# Altium integrated library NSC Legacy.IntLib: 687 symbols (part 14 of 17)
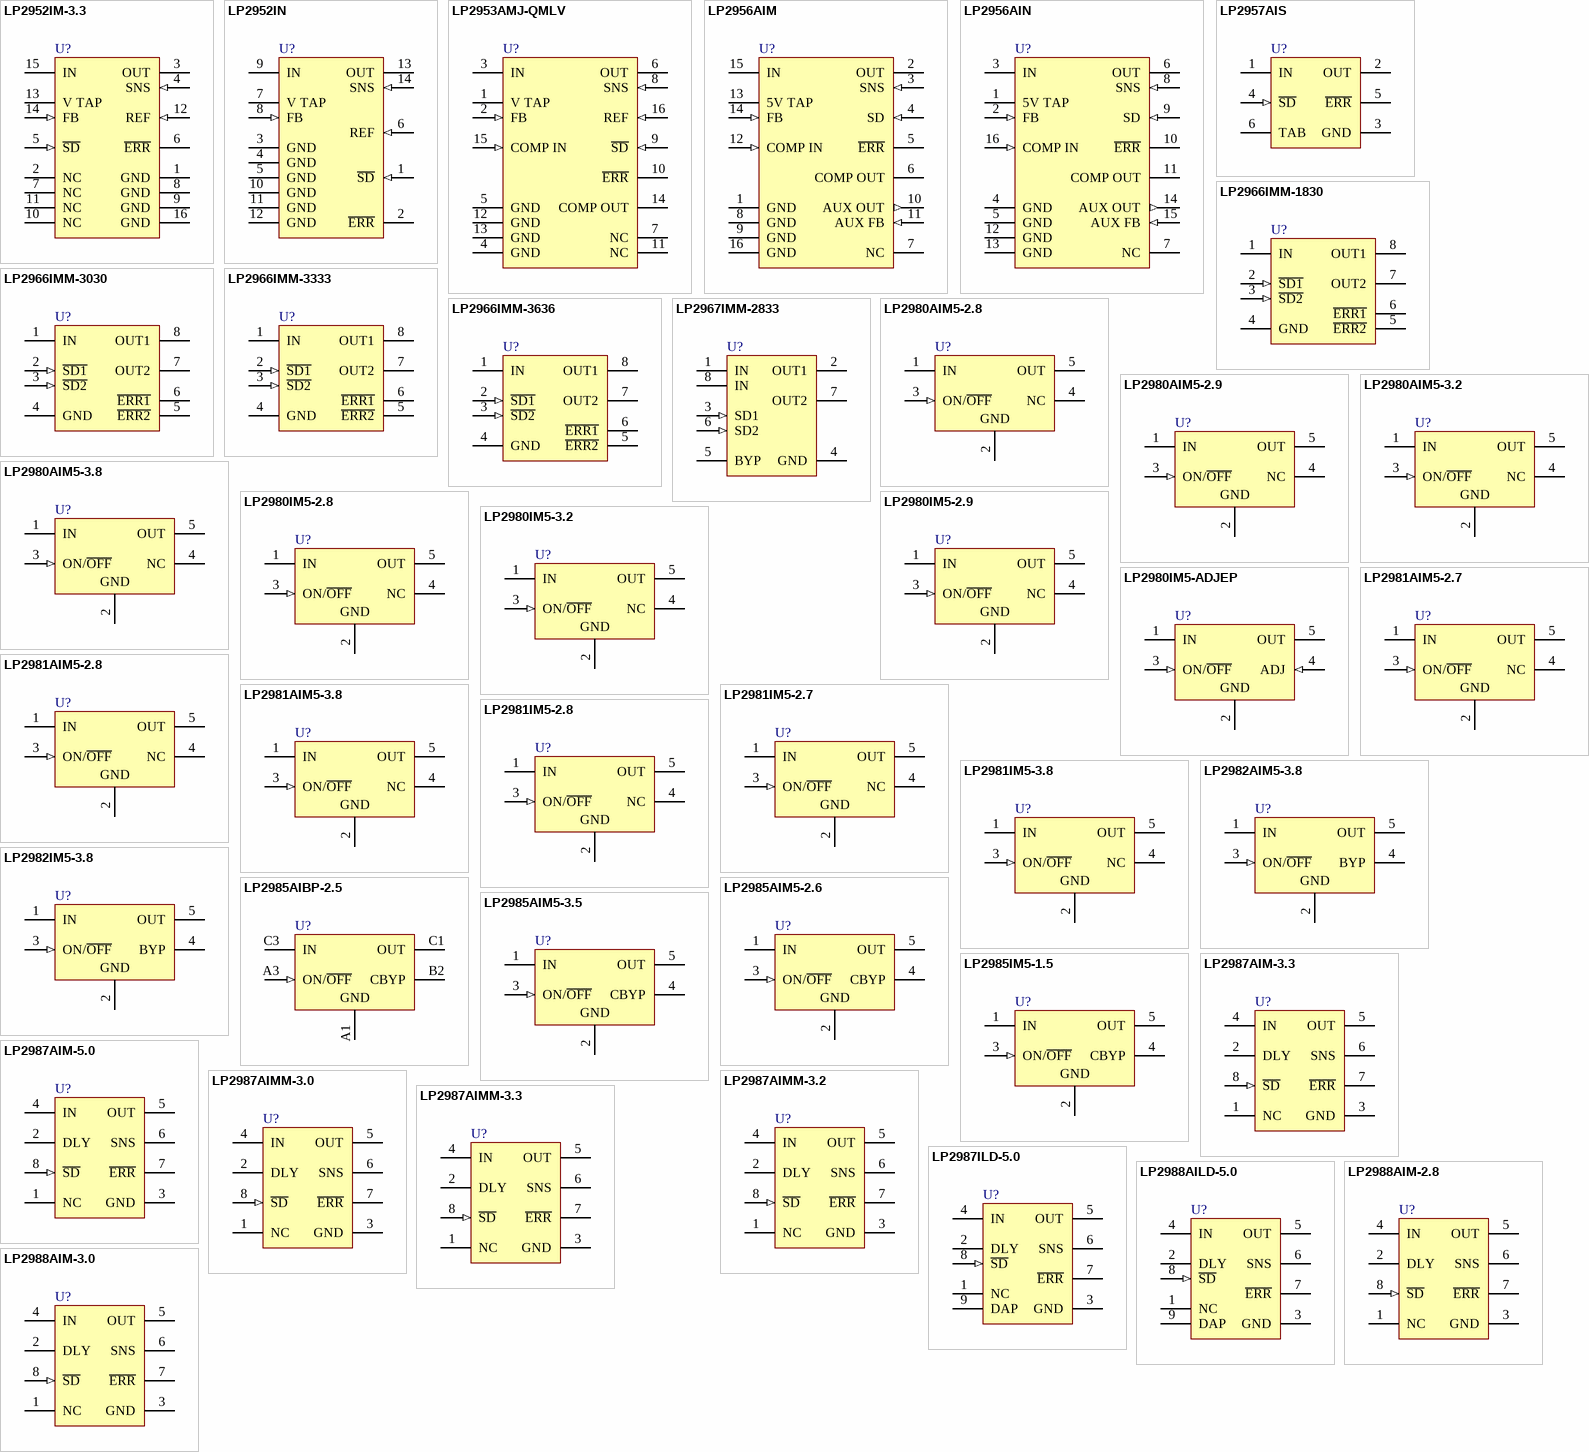
[diagram p37: symbols LP2952IM-3.3 to LP2988AIM-3.0]

## LP2980IM5-3.2
designator U?
Micropower 50 mA Ultra Low-Dropout Regulator, 5-pin SOT-23; PartNumber: LP2980IM5-3.2; Manufacturer: National Semiconductor; PackageTopMarking: L31B*XTT; CompType: LDO IC; Published: 4-Dec-2008; DatasheetVersion: Sep-2006; PackageVersion: revD, Aug-2008; PackageReference: MF05A; Publisher: Altium Limited; PackageDescription: Molded SOT-23, .115 x .063 x .040 in Body, 5 Lead, .0375 in Pitch; RoHS: Y; PinCount: 5; ComponentLink1Description: LP2980 Datasheet; ComponentLink1URL: http://www.national.com/ds/LP/LP2980.pdf; ComponentLink2Description: LP2980 Web Page; ComponentLink2URL: http://www.national.com/pf/LP/LP2980.html; ComponentLink3Description: MF05A Package Page; ComponentLink3URL: http://www.national.com/packaging/folders/mf05a.html
footprint MF05A_N (SOT23, 5-Leads, Body 2.9x1.6mm, Pitch 0.95mm, Lead Span 2.8mm, IPC Medium Density)
footprint MF05A_L (SOT23, 5-Leads, Body 2.9x1.6mm, Pitch 0.95mm, Lead Span 2.8mm, IPC High Density)
footprint MF05A_M (SOT23, 5-Leads, Body 2.9x1.6mm, Pitch 0.95mm, Lead Span 2.8mm, IPC Low Density)
pins: 1 IN (power), 2 GND (power), 3 ON/~{OFF} (in), 4 NC, 5 OUT (power)

## LP2980IM5-ADJEP
designator U?
Micropower 50 mA Ultra Low-Dropout Regulator, 5-pin SOT-23; PartNumber: LP2980IM5-ADJEP; Manufacturer: National Semiconductor; PackageTopMarking: L06J*XTT; PowerWise: N; CompType: LDO IC; Published: 4-Dec-2008; DatasheetVersion: Dec-2006; PackageVersion: revD, Aug-2008; PackageReference: MF05A; Publisher: Altium Limited; PackageDescription: Molded SOT-23, .115 x .063 x .040 in Body, 5 Lead, .0375 in Pitch; RoHS: N; PinCount: 5; ComponentLink1Description: LP2980-ADJEP Datasheet; ComponentLink1URL: http://www.national.com/ds/LP/LP2980-ADJEP.pdf; ComponentLink2Description: LP2980-ADJEP Web Page; ComponentLink2URL: http://www.national.com/pf/LP/LP2980-ADJEP.html; ComponentLink3Description: MF05A Package Page; ComponentLink3URL: http://www.national.com/packaging/folders/mf05a.html
footprint MF05A_N (SOT23, 5-Leads, Body 2.9x1.6mm, Pitch 0.95mm, Lead Span 2.8mm, IPC Medium Density)
footprint MF05A_L (SOT23, 5-Leads, Body 2.9x1.6mm, Pitch 0.95mm, Lead Span 2.8mm, IPC High Density)
footprint MF05A_M (SOT23, 5-Leads, Body 2.9x1.6mm, Pitch 0.95mm, Lead Span 2.8mm, IPC Low Density)
pins: 1 IN (power), 2 GND (power), 3 ON/~{OFF} (in), 4 ADJ (in), 5 OUT (power)

## LP2981AIM5-2.7
designator U?
Micropower 100 mA Ultra Low-Dropout Regulator, 5-pin SOT-23; PartNumber: LP2981AIM5-2.7; Manufacturer: National Semiconductor; PackageTopMarking: L0DA*XTT; CompType: LDO IC; Published: 4-Dec-2008; DatasheetVersion: Feb-2006; PackageVersion: revD, Aug-2008; PackageReference: MF05A; Publisher: Altium Limited; PackageDescription: Molded SOT-23, .115 x .063 x .040 in Body, 5 Lead, .0375 in Pitch; RoHS: Y; PinCount: 5; ComponentLink1Description: LP2981 Datasheet; ComponentLink1URL: http://www.national.com/ds/LP/LP2981.pdf; ComponentLink2Description: LP2981 Web Page; ComponentLink2URL: http://www.national.com/pf/LP/LP2981.html; ComponentLink3Description: MF05A Package Page; ComponentLink3URL: http://www.national.com/packaging/folders/mf05a.html
footprint MF05A_N (SOT23, 5-Leads, Body 2.9x1.6mm, Pitch 0.95mm, Lead Span 2.8mm, IPC Medium Density)
footprint MF05A_L (SOT23, 5-Leads, Body 2.9x1.6mm, Pitch 0.95mm, Lead Span 2.8mm, IPC High Density)
footprint MF05A_M (SOT23, 5-Leads, Body 2.9x1.6mm, Pitch 0.95mm, Lead Span 2.8mm, IPC Low Density)
pins: 1 IN (power), 2 GND (power), 3 ON/~{OFF} (in), 4 NC, 5 OUT (power)

## LP2981AIM5-2.8
designator U?
Micropower 100 mA Ultra Low-Dropout Regulator, 5-pin SOT-23; PartNumber: LP2981AIM5-2.8; Manufacturer: National Semiconductor; PackageTopMarking: L77A*XTT; CompType: LDO IC; Published: 4-Dec-2008; DatasheetVersion: Feb-2006; PackageVersion: revD, Aug-2008; PackageReference: MF05A; Publisher: Altium Limited; PackageDescription: Molded SOT-23, .115 x .063 x .040 in Body, 5 Lead, .0375 in Pitch; RoHS: Y; PinCount: 5; ComponentLink1Description: LP2981 Datasheet; ComponentLink1URL: http://www.national.com/ds/LP/LP2981.pdf; ComponentLink2Description: LP2981 Web Page; ComponentLink2URL: http://www.national.com/pf/LP/LP2981.html; ComponentLink3Description: MF05A Package Page; ComponentLink3URL: http://www.national.com/packaging/folders/mf05a.html
footprint MF05A_N (SOT23, 5-Leads, Body 2.9x1.6mm, Pitch 0.95mm, Lead Span 2.8mm, IPC Medium Density)
footprint MF05A_L (SOT23, 5-Leads, Body 2.9x1.6mm, Pitch 0.95mm, Lead Span 2.8mm, IPC High Density)
footprint MF05A_M (SOT23, 5-Leads, Body 2.9x1.6mm, Pitch 0.95mm, Lead Span 2.8mm, IPC Low Density)
pins: 1 IN (power), 2 GND (power), 3 ON/~{OFF} (in), 4 NC, 5 OUT (power)

## LP2981AIM5-3.8
designator U?
Micropower 100 mA Ultra Low-Dropout Regulator, 5-pin SOT-23; PartNumber: LP2981AIM5-3.8; Manufacturer: National Semiconductor; PackageTopMarking: L36A*XTT; CompType: LDO IC; Published: 4-Dec-2008; DatasheetVersion: Feb-2006; PackageVersion: revD, Aug-2008; PackageReference: MF05A; Publisher: Altium Limited; PackageDescription: Molded SOT-23, .115 x .063 x .040 in Body, 5 Lead, .0375 in Pitch; RoHS: Y; PinCount: 5; ComponentLink1Description: LP2981 Datasheet; ComponentLink1URL: http://www.national.com/ds/LP/LP2981.pdf; ComponentLink2Description: LP2981 Web Page; ComponentLink2URL: http://www.national.com/pf/LP/LP2981.html; ComponentLink3Description: MF05A Package Page; ComponentLink3URL: http://www.national.com/packaging/folders/mf05a.html
footprint MF05A_N (SOT23, 5-Leads, Body 2.9x1.6mm, Pitch 0.95mm, Lead Span 2.8mm, IPC Medium Density)
footprint MF05A_L (SOT23, 5-Leads, Body 2.9x1.6mm, Pitch 0.95mm, Lead Span 2.8mm, IPC High Density)
footprint MF05A_M (SOT23, 5-Leads, Body 2.9x1.6mm, Pitch 0.95mm, Lead Span 2.8mm, IPC Low Density)
pins: 1 IN (power), 2 GND (power), 3 ON/~{OFF} (in), 4 NC, 5 OUT (power)

## LP2981IM5-2.7
designator U?
Micropower 100 mA Ultra Low-Dropout Regulator, 5-pin SOT-23; PartNumber: LP2981IM5-2.7; Manufacturer: National Semiconductor; PackageTopMarking: L0DB*XTT; CompType: LDO IC; Published: 4-Dec-2008; DatasheetVersion: Feb-2006; PackageVersion: revD, Aug-2008; PackageReference: MF05A; Publisher: Altium Limited; PackageDescription: Molded SOT-23, .115 x .063 x .040 in Body, 5 Lead, .0375 in Pitch; RoHS: Y; PinCount: 5; ComponentLink1Description: LP2981 Datasheet; ComponentLink1URL: http://www.national.com/ds/LP/LP2981.pdf; ComponentLink2Description: LP2981 Web Page; ComponentLink2URL: http://www.national.com/pf/LP/LP2981.html; ComponentLink3Description: MF05A Package Page; ComponentLink3URL: http://www.national.com/packaging/folders/mf05a.html
footprint MF05A_N (SOT23, 5-Leads, Body 2.9x1.6mm, Pitch 0.95mm, Lead Span 2.8mm, IPC Medium Density)
footprint MF05A_L (SOT23, 5-Leads, Body 2.9x1.6mm, Pitch 0.95mm, Lead Span 2.8mm, IPC High Density)
footprint MF05A_M (SOT23, 5-Leads, Body 2.9x1.6mm, Pitch 0.95mm, Lead Span 2.8mm, IPC Low Density)
pins: 1 IN (power), 2 GND (power), 3 ON/~{OFF} (in), 4 NC, 5 OUT (power)

## LP2981IM5-2.8
designator U?
Micropower 100 mA Ultra Low-Dropout Regulator, 5-pin SOT-23; PartNumber: LP2981IM5-2.8; Manufacturer: National Semiconductor; PackageTopMarking: L77B*XTT; CompType: LDO IC; Published: 4-Dec-2008; DatasheetVersion: Feb-2006; PackageVersion: revD, Aug-2008; PackageReference: MF05A; Publisher: Altium Limited; PackageDescription: Molded SOT-23, .115 x .063 x .040 in Body, 5 Lead, .0375 in Pitch; RoHS: Y; PinCount: 5; ComponentLink1Description: LP2981 Datasheet; ComponentLink1URL: http://www.national.com/ds/LP/LP2981.pdf; ComponentLink2Description: LP2981 Web Page; ComponentLink2URL: http://www.national.com/pf/LP/LP2981.html; ComponentLink3Description: MF05A Package Page; ComponentLink3URL: http://www.national.com/packaging/folders/mf05a.html
footprint MF05A_N (SOT23, 5-Leads, Body 2.9x1.6mm, Pitch 0.95mm, Lead Span 2.8mm, IPC Medium Density)
footprint MF05A_L (SOT23, 5-Leads, Body 2.9x1.6mm, Pitch 0.95mm, Lead Span 2.8mm, IPC High Density)
footprint MF05A_M (SOT23, 5-Leads, Body 2.9x1.6mm, Pitch 0.95mm, Lead Span 2.8mm, IPC Low Density)
pins: 1 IN (power), 2 GND (power), 3 ON/~{OFF} (in), 4 NC, 5 OUT (power)

## LP2981IM5-3.8
designator U?
Micropower 100 mA Ultra Low-Dropout Regulator, 5-pin SOT-23; PartNumber: LP2981IM5-3.8; Manufacturer: National Semiconductor; PackageTopMarking: L36B*XTT; CompType: LDO IC; Published: 4-Dec-2008; DatasheetVersion: Feb-2006; PackageVersion: revD, Aug-2008; PackageReference: MF05A; Publisher: Altium Limited; PackageDescription: Molded SOT-23, .115 x .063 x .040 in Body, 5 Lead, .0375 in Pitch; RoHS: Y; PinCount: 5; ComponentLink1Description: LP2981 Datasheet; ComponentLink1URL: http://www.national.com/ds/LP/LP2981.pdf; ComponentLink2Description: LP2981 Web Page; ComponentLink2URL: http://www.national.com/pf/LP/LP2981.html; ComponentLink3Description: MF05A Package Page; ComponentLink3URL: http://www.national.com/packaging/folders/mf05a.html
footprint MF05A_N (SOT23, 5-Leads, Body 2.9x1.6mm, Pitch 0.95mm, Lead Span 2.8mm, IPC Medium Density)
footprint MF05A_L (SOT23, 5-Leads, Body 2.9x1.6mm, Pitch 0.95mm, Lead Span 2.8mm, IPC High Density)
footprint MF05A_M (SOT23, 5-Leads, Body 2.9x1.6mm, Pitch 0.95mm, Lead Span 2.8mm, IPC Low Density)
pins: 1 IN (power), 2 GND (power), 3 ON/~{OFF} (in), 4 NC, 5 OUT (power)

## LP2982AIM5-3.8
designator U?
Micropower 50 mA Ultra Low-Dropout Regulator, 5-pin SOT-23; PartNumber: LP2982AIM5-3.8; Manufacturer: National Semiconductor; PackageTopMarking: L76A*XTT; CompType: LDO IC; Published: 4-Dec-2008; DatasheetVersion: Feb-2006; PackageVersion: revD, Aug-2008; PackageReference: MF05A; Publisher: Altium Limited; PackageDescription: Molded SOT-23, .115 x .063 x .040 in Body, 5 Lead, .0375 in Pitch; RoHS: Y; PinCount: 5; ComponentLink1Description: LP2982 Datasheet; ComponentLink1URL: http://www.national.com/ds/LP/LP2982.pdf; ComponentLink2Description: LP2982 Web Page; ComponentLink2URL: http://www.national.com/pf/LP/LP2982.html; ComponentLink3Description: MF05A Package Page; ComponentLink3URL: http://www.national.com/packaging/folders/mf05a.html
footprint MF05A_N (SOT23, 5-Leads, Body 2.9x1.6mm, Pitch 0.95mm, Lead Span 2.8mm, IPC Medium Density)
footprint MF05A_L (SOT23, 5-Leads, Body 2.9x1.6mm, Pitch 0.95mm, Lead Span 2.8mm, IPC High Density)
footprint MF05A_M (SOT23, 5-Leads, Body 2.9x1.6mm, Pitch 0.95mm, Lead Span 2.8mm, IPC Low Density)
pins: 1 IN (power), 2 GND (power), 3 ON/~{OFF} (in), 4 BYP, 5 OUT (power)

## LP2982IM5-3.8
designator U?
Micropower 50 mA Ultra Low-Dropout Regulator, 5-pin SOT-23; PartNumber: LP2982IM5-3.8; Manufacturer: National Semiconductor; PackageTopMarking: L76B*XTT; CompType: LDO IC; Published: 4-Dec-2008; DatasheetVersion: Feb-2006; PackageVersion: revD, Aug-2008; PackageReference: MF05A; Publisher: Altium Limited; PackageDescription: Molded SOT-23, .115 x .063 x .040 in Body, 5 Lead, .0375 in Pitch; RoHS: Y; PinCount: 5; ComponentLink1Description: LP2982 Datasheet; ComponentLink1URL: http://www.national.com/ds/LP/LP2982.pdf; ComponentLink2Description: LP2982 Web Page; ComponentLink2URL: http://www.national.com/pf/LP/LP2982.html; ComponentLink3Description: MF05A Package Page; ComponentLink3URL: http://www.national.com/packaging/folders/mf05a.html
footprint MF05A_N (SOT23, 5-Leads, Body 2.9x1.6mm, Pitch 0.95mm, Lead Span 2.8mm, IPC Medium Density)
footprint MF05A_L (SOT23, 5-Leads, Body 2.9x1.6mm, Pitch 0.95mm, Lead Span 2.8mm, IPC High Density)
footprint MF05A_M (SOT23, 5-Leads, Body 2.9x1.6mm, Pitch 0.95mm, Lead Span 2.8mm, IPC Low Density)
pins: 1 IN (power), 2 GND (power), 3 ON/~{OFF} (in), 4 BYP, 5 OUT (power)

## LP2985AIBP-2.5
designator U?
Micropower 150 mA Low-Noise Ultra Low-Dropout Regulator, 5-pin Micro SMD; PartNumber: LP2985AIBP-2.5; Manufacturer: National Semiconductor; PackageTopMarking: XV*I C; CompType: LDO IC; Published: 4-Dec-2008; DatasheetVersion: Jul-2007; PackageVersion: revC, Feb-2002; PackageReference: BPA05GAB; Publisher: Altium Limited; PackageDescription: Micro SMD, 5 Bump, 0.5mm Pitch; Supplier 1: Digi-Key; Supplier Part Number 1: LP2985AIBP-2.5TR-ND; Supplier 2: Digi-Key; Supplier Part Number 2: LP2985AIBP-2.5CT-ND; RoHS: N; PinCount: 5; ComponentLink1Description: LP2985 Datasheet; ComponentLink1URL: http://www.national.com/ds/LP/LP2985.pdf; ComponentLink2Description: LP2985 Web Page; ComponentLink2URL: http://www.national.com/pf/LP/LP2985.html; ComponentLink3Description: BPA05GAB Package Page; ComponentLink3URL: http://www.national.com/packaging/folders/bpa05gab.html
footprint BPA05GAB (Micro SMD, 5-Leads, Body 1.11x0.93mm, Pitch 0.5mm, NSC Recommended)
pins: A1 GND (power), A3 ON/~{OFF} (in), B2 CBYP, C1 OUT (power), C3 IN (power)

## LP2985AIM5-2.6
designator U?
Micropower 150 mA Low-Noise Ultra Low-Dropout Regulator, 5-pin SOT-23; PartNumber: LP2985AIM5-2.6; Manufacturer: National Semiconductor; PackageTopMarking: LCEA*XTT; CompType: LDO IC; Published: 4-Dec-2008; DatasheetVersion: Jul-2007; PackageVersion: revD, Aug-2008; PackageReference: MF05A; Publisher: Altium Limited; PackageDescription: Molded SOT-23, .115 x .063 x .040 in Body, 5 Lead, .0375 in Pitch; RoHS: Y; PinCount: 5; ComponentLink1Description: LP2985 Datasheet; ComponentLink1URL: http://www.national.com/ds/LP/LP2985.pdf; ComponentLink2Description: LP2985 Web Page; ComponentLink2URL: http://www.national.com/pf/LP/LP2985.html; ComponentLink3Description: MF05A Package Page; ComponentLink3URL: http://www.national.com/packaging/folders/mf05a.html
footprint MF05A_N (SOT23, 5-Leads, Body 2.9x1.6mm, Pitch 0.95mm, Lead Span 2.8mm, IPC Medium Density)
footprint MF05A_L (SOT23, 5-Leads, Body 2.9x1.6mm, Pitch 0.95mm, Lead Span 2.8mm, IPC High Density)
footprint MF05A_M (SOT23, 5-Leads, Body 2.9x1.6mm, Pitch 0.95mm, Lead Span 2.8mm, IPC Low Density)
pins: 1 IN (power), 2 GND (power), 3 ON/~{OFF} (in), 4 CBYP, 5 OUT (power)

## LP2985AIM5-3.5
designator U?
Micropower 150 mA Low-Noise Ultra Low-Dropout Regulator, 5-pin SOT-23; PartNumber: LP2985AIM5-3.5; Manufacturer: National Semiconductor; PackageTopMarking: LAIA*XTT; CompType: LDO IC; Published: 4-Dec-2008; DatasheetVersion: Jul-2007; PackageVersion: revD, Aug-2008; PackageReference: MF05A; Publisher: Altium Limited; PackageDescription: Molded SOT-23, .115 x .063 x .040 in Body, 5 Lead, .0375 in Pitch; RoHS: Y; PinCount: 5; ComponentLink1Description: LP2985 Datasheet; ComponentLink1URL: http://www.national.com/ds/LP/LP2985.pdf; ComponentLink2Description: LP2985 Web Page; ComponentLink2URL: http://www.national.com/pf/LP/LP2985.html; ComponentLink3Description: MF05A Package Page; ComponentLink3URL: http://www.national.com/packaging/folders/mf05a.html
footprint MF05A_N (SOT23, 5-Leads, Body 2.9x1.6mm, Pitch 0.95mm, Lead Span 2.8mm, IPC Medium Density)
footprint MF05A_L (SOT23, 5-Leads, Body 2.9x1.6mm, Pitch 0.95mm, Lead Span 2.8mm, IPC High Density)
footprint MF05A_M (SOT23, 5-Leads, Body 2.9x1.6mm, Pitch 0.95mm, Lead Span 2.8mm, IPC Low Density)
pins: 1 IN (power), 2 GND (power), 3 ON/~{OFF} (in), 4 CBYP, 5 OUT (power)

## LP2985IM5-1.5
designator U?
Micropower 150 mA Low-Noise Ultra Low-Dropout Regulator, 5-pin SOT-23; PartNumber: LP2985IM5-1.5; Manufacturer: National Semiconductor; PackageTopMarking: LCHB*XTT; CompType: LDO IC; Published: 4-Dec-2008; DatasheetVersion: Jun-2004; PackageVersion: revD, Aug-2008; PackageReference: MF05A; Publisher: Altium Limited; PackageDescription: Molded SOT-23, .115 x .063 x .040 in Body, 5 Lead, .0375 in Pitch; Supplier 1: Digi-Key; Supplier Part Number 1: LP2985IM5-1.5CT-ND; Supplier 2: Digi-Key; Supplier Part Number 2: LP2985IM5-1.5DKR-ND; RoHS: Y; PinCount: 5; ComponentLink1Description: LP2985LV Datasheet; ComponentLink1URL: http://www.national.com/ds/LP/LP2985LV.pdf; ComponentLink2Description: LP2985LV Web Page; ComponentLink2URL: http://www.national.com/pf/LP/LP2985LV.html; ComponentLink3Description: MF05A Package Page; ComponentLink3URL: http://www.national.com/packaging/folders/mf05a.html
footprint MF05A_N (SOT23, 5-Leads, Body 2.9x1.6mm, Pitch 0.95mm, Lead Span 2.8mm, IPC Medium Density)
footprint MF05A_L (SOT23, 5-Leads, Body 2.9x1.6mm, Pitch 0.95mm, Lead Span 2.8mm, IPC High Density)
footprint MF05A_M (SOT23, 5-Leads, Body 2.9x1.6mm, Pitch 0.95mm, Lead Span 2.8mm, IPC Low Density)
pins: 1 IN (power), 2 GND (power), 3 ON/~{OFF} (in), 4 CBYP, 5 OUT (power)

## LP2987AIM-3.3
designator U?
Micropower, 200 mA Ultra Low-Dropout Voltage Regulator with Programmable Power-On Reset Delay, 8-pin Narrow SOIC; PartNumber: LP2987AIM-3.3; Manufacturer: National Semiconductor; PackageTopMarking: NSZXTT*2987A*IM3.3; CompType: LDO IC; Published: 4-Dec-2008; DatasheetVersion: Mar-2005; PackageVersion: revM, May-2009; PackageReference: M08A; Publisher: Altium Limited; PackageDescription: SOIC Narrow, 4.9 x 3.9 x 1.45mm, 8 Lead, 1.27mm Pitch; RoHS: O; PinCount: 8; Code_JEDEC: MS-012-AA; Code_IPC: SOIC127P600-8; ComponentLink1Description: LP2987 Datasheet; ComponentLink1URL: http://www.national.com/ds/LP/LP2987.pdf; ComponentLink2Description: LP2987 Web Page; ComponentLink2URL: http://www.national.com/pf/LP/LP2987.html; ComponentLink3Description: M08A Package Page; ComponentLink3URL: http://www.national.com/packaging/folders/m08a.html
footprint M08A_N (SOIC, 8-Leads, Body 4.9x3.9mm, Pitch 1.27mm, IPC Medium Density)
footprint M08A_L (SOIC, 8-Leads, Body 4.9x3.9mm, Pitch 1.27mm, IPC High Density)
footprint M08A_M (SOIC, 8-Leads, Body 4.9x3.9mm, Pitch 1.27mm, IPC Low Density)
pins: 1 NC, 2 DLY, 3 GND (power), 4 IN (power), 5 OUT (power), 6 SNS, 7 ~{ERR} (oc), 8 ~{SD} (in)

## LP2987AIM-5.0
designator U?
Micropower, 200 mA Ultra Low-Dropout Voltage Regulator with Programmable Power-On Reset Delay, 8-pin Narrow SOIC; PartNumber: LP2987AIM-5.0; Manufacturer: National Semiconductor; PackageTopMarking: NSZXTT*2987A*IM5.0; CompType: LDO IC; Published: 4-Dec-2008; DatasheetVersion: Mar-2005; PackageVersion: revM, May-2009; PackageReference: M08A; Publisher: Altium Limited; PackageDescription: SOIC Narrow, 4.9 x 3.9 x 1.45mm, 8 Lead, 1.27mm Pitch; RoHS: Y; PinCount: 8; Code_JEDEC: MS-012-AA; Code_IPC: SOIC127P600-8; ComponentLink1Description: LP2987 Datasheet; ComponentLink1URL: http://www.national.com/ds/LP/LP2987.pdf; ComponentLink2Description: LP2987 Web Page; ComponentLink2URL: http://www.national.com/pf/LP/LP2987.html; ComponentLink3Description: M08A Package Page; ComponentLink3URL: http://www.national.com/packaging/folders/m08a.html
footprint M08A_N (SOIC, 8-Leads, Body 4.9x3.9mm, Pitch 1.27mm, IPC Medium Density)
footprint M08A_L (SOIC, 8-Leads, Body 4.9x3.9mm, Pitch 1.27mm, IPC High Density)
footprint M08A_M (SOIC, 8-Leads, Body 4.9x3.9mm, Pitch 1.27mm, IPC Low Density)
pins: 1 NC, 2 DLY, 3 GND (power), 4 IN (power), 5 OUT (power), 6 SNS, 7 ~{ERR} (oc), 8 ~{SD} (in)

## LP2987AIMM-3.0
designator U?
Micropower, 200 mA Ultra Low-Dropout Voltage Regulator with Programmable Power-On Reset Delay, 8-pin Mini SOIC; PartNumber: LP2987AIMM-3.0; Manufacturer: National Semiconductor; PackageTopMarking: ZXTT*L42A; CompType: LDO IC; Published: 4-Dec-2008; DatasheetVersion: Mar-2005; PackageVersion: revF, Apr-2008; PackageReference: MUA08A; Publisher: Altium Limited; PackageDescription: MINI SOIC, .118 x .118 x .034in, 8 Lead, .0256in Pitch; Supplier 1: Digi-Key; Supplier Part Number 1: LP2987AIMM-3.0TR-ND; Supplier 2: Digi-Key; Supplier Part Number 2: LP2987AIMM-3.0CT-ND; RoHS: Y; PinCount: 8; Code_JEDEC: MO-187-AA; ComponentLink1Description: LP2987 Datasheet; ComponentLink1URL: http://www.national.com/ds/LP/LP2987.pdf; ComponentLink2Description: LP2987 Web Page; ComponentLink2URL: http://www.national.com/pf/LP/LP2987.html; ComponentLink3Description: MUA08A Package Page; ComponentLink3URL: http://www.national.com/packaging/folders/mua08a.html
footprint MUA08A_N (TSOP, 8-Leads, Body 3x3mm, Pitch 0.65mm, IPC Medium Density)
footprint MUA08A_L (TSOP, 8-Leads, Body 3x3mm, Pitch 0.65mm, IPC High Density)
footprint MUA08A_M (TSOP, 8-Leads, Body 3x3mm, Pitch 0.65mm, IPC Low Density)
pins: 1 NC, 2 DLY, 3 GND (power), 4 IN (power), 5 OUT (power), 6 SNS, 7 ~{ERR} (oc), 8 ~{SD} (in)

## LP2987AIMM-3.2
designator U?
Micropower, 200 mA Ultra Low-Dropout Voltage Regulator with Programmable Power-On Reset Delay, 8-pin Mini SOIC; PartNumber: LP2987AIMM-3.2; Manufacturer: National Semiconductor; PackageTopMarking: ZXTT*L66A; CompType: LDO IC; Published: 4-Dec-2008; DatasheetVersion: Mar-2005; PackageVersion: revF, Apr-2008; PackageReference: MUA08A; Publisher: Altium Limited; PackageDescription: MINI SOIC, .118 x .118 x .034in, 8 Lead, .0256in Pitch; Supplier 1: Digi-Key; Supplier Part Number 1: LP2987AIMM-3.2TR-ND; Supplier 2: Digi-Key; Supplier Part Number 2: LP2987AIMM-3.2CT-ND; RoHS: Y; PinCount: 8; Code_JEDEC: MO-187-AA; ComponentLink1Description: LP2987 Datasheet; ComponentLink1URL: http://www.national.com/ds/LP/LP2987.pdf; ComponentLink2Description: LP2987 Web Page; ComponentLink2URL: http://www.national.com/pf/LP/LP2987.html; ComponentLink3Description: MUA08A Package Page; ComponentLink3URL: http://www.national.com/packaging/folders/mua08a.html
footprint MUA08A_N (TSOP, 8-Leads, Body 3x3mm, Pitch 0.65mm, IPC Medium Density)
footprint MUA08A_L (TSOP, 8-Leads, Body 3x3mm, Pitch 0.65mm, IPC High Density)
footprint MUA08A_M (TSOP, 8-Leads, Body 3x3mm, Pitch 0.65mm, IPC Low Density)
pins: 1 NC, 2 DLY, 3 GND (power), 4 IN (power), 5 OUT (power), 6 SNS, 7 ~{ERR} (oc), 8 ~{SD} (in)

## LP2987AIMM-3.3
designator U?
Micropower, 200 mA Ultra Low-Dropout Voltage Regulator with Programmable Power-On Reset Delay, 8-pin Mini SOIC; PartNumber: LP2987AIMM-3.3; Manufacturer: National Semiconductor; PackageTopMarking: ZXTT*L43A; CompType: LDO IC; Published: 4-Dec-2008; DatasheetVersion: Mar-2005; PackageVersion: revF, Apr-2008; PackageReference: MUA08A; Publisher: Altium Limited; PackageDescription: MINI SOIC, .118 x .118 x .034in, 8 Lead, .0256in Pitch; Supplier 1: Digi-Key; Supplier Part Number 1: LP2987AIMM-3.3TR-ND; Supplier 2: Digi-Key; Supplier Part Number 2: LP2987AIMM-3.3CT-ND; RoHS: Y; PinCount: 8; Code_JEDEC: MO-187-AA; ComponentLink1Description: LP2987 Datasheet; ComponentLink1URL: http://www.national.com/ds/LP/LP2987.pdf; ComponentLink2Description: LP2987 Web Page; ComponentLink2URL: http://www.national.com/pf/LP/LP2987.html; ComponentLink3Description: MUA08A Package Page; ComponentLink3URL: http://www.national.com/packaging/folders/mua08a.html
footprint MUA08A_N (TSOP, 8-Leads, Body 3x3mm, Pitch 0.65mm, IPC Medium Density)
footprint MUA08A_L (TSOP, 8-Leads, Body 3x3mm, Pitch 0.65mm, IPC High Density)
footprint MUA08A_M (TSOP, 8-Leads, Body 3x3mm, Pitch 0.65mm, IPC Low Density)
pins: 1 NC, 2 DLY, 3 GND (power), 4 IN (power), 5 OUT (power), 6 SNS, 7 ~{ERR} (oc), 8 ~{SD} (in)

## LP2987ILD-5.0
designator U?
Micropower, 200 mA Ultra Low-Dropout Voltage Regulator with Programmable Power-On Reset Delay, 8-pin LLP; PartNumber: LP2987ILD-5.0; Manufacturer: National Semiconductor; PackageTopMarking: NS*UZXYTT*L009A*B; CompType: LDO IC; Published: 4-Dec-2008; DatasheetVersion: Mar-2005; PackageVersion: revB, Jun-2003; PackageReference: LDC08A; Publisher: Altium Limited; PackageDescription: LLP, Plastic, Dual, 4 x 4 x 0.75mm Body, 8 Lead, 0.8mm Pitch; Supplier 1: Farnell; Supplier Part Number 1: 4801283; RoHS: Y; PinCount: 8; ComponentLink1Description: LP2987 Datasheet; ComponentLink1URL: http://www.national.com/ds/LP/LP2987.pdf; ComponentLink2Description: LP2987 Web Page; ComponentLink2URL: http://www.national.com/pf/LP/LP2987.html; ComponentLink3Description: LDC08A Package Page; ComponentLink3URL: http://www.national.com/packaging/folders/ldc08a.html
footprint LDC08A (PSON, 8-Leads, Body 4x4mm, Pitch 0.8mm, NSC Recommended)
pins: 1 NC, 2 DLY, 3 GND (power), 4 IN (power), 5 OUT (power), 6 SNS, 7 ~{ERR} (oc), 8 ~{SD} (in), 9 DAP (power)

## LP2988AILD-5.0
designator U?
Micropower, 200 mA Ultra Low-Dropout Low Noise Voltage Regulator with Programmable Power-On Reset Delay, 8-pin LLP; PartNumber: LP2988AILD-5.0; Manufacturer: National Semiconductor; PackageTopMarking: NS*UZXYTT*L01DA; CompType: LDO IC; Published: 4-Dec-2008; DatasheetVersion: Mar-2005; PackageVersion: revB, Jun-2003; PackageReference: LDC08A; Publisher: Altium Limited; PackageDescription: LLP, Plastic, Dual, 4 x 4 x 0.75mm Body, 8 Lead, 0.8mm Pitch; Supplier 1: Digi-Key; Supplier Part Number 1: LP2988AILD-5.0TR-ND; Supplier 2: Digi-Key; Supplier Part Number 2: LP2988AILD-5.0CT-ND; RoHS: O; PinCount: 8; ComponentLink1Description: LP2988 Datasheet; ComponentLink1URL: http://www.national.com/ds/LP/LP2988.pdf; ComponentLink2Description: LP2988 Web Page; ComponentLink2URL: http://www.national.com/pf/LP/LP2988.html; ComponentLink3Description: LDC08A Package Page; ComponentLink3URL: http://www.national.com/packaging/folders/ldc08a.html
footprint LDC08A (PSON, 8-Leads, Body 4x4mm, Pitch 0.8mm, NSC Recommended)
pins: 1 NC, 2 DLY, 3 GND (power), 4 IN (power), 5 OUT (power), 6 SNS, 7 ~{ERR} (oc), 8 ~{SD} (in), 9 DAP (power)

## LP2988AIM-2.8
designator U?
Micropower, 200 mA Ultra Low-Dropout Low Noise Voltage Regulator with Programmable Power-On Reset Delay, 8-pin Narrow SOIC; PartNumber: LP2988AIM-2.8; Manufacturer: National Semiconductor; PackageTopMarking: NSZXTT*2988A*IM2.8; CompType: LDO IC; Published: 4-Dec-2008; DatasheetVersion: Mar-2005; PackageVersion: revM, May-2009; PackageReference: M08A; Publisher: Altium Limited; PackageDescription: SOIC Narrow, 4.9 x 3.9 x 1.45mm, 8 Lead, 1.27mm Pitch; RoHS: Y; PinCount: 8; Code_JEDEC: MS-012-AA; Code_IPC: SOIC127P600-8; ComponentLink1Description: LP2988 Datasheet; ComponentLink1URL: http://www.national.com/ds/LP/LP2988.pdf; ComponentLink2Description: LP2988 Web Page; ComponentLink2URL: http://www.national.com/pf/LP/LP2988.html; ComponentLink3Description: M08A Package Page; ComponentLink3URL: http://www.national.com/packaging/folders/m08a.html
footprint M08A_N (SOIC, 8-Leads, Body 4.9x3.9mm, Pitch 1.27mm, IPC Medium Density)
footprint M08A_L (SOIC, 8-Leads, Body 4.9x3.9mm, Pitch 1.27mm, IPC High Density)
footprint M08A_M (SOIC, 8-Leads, Body 4.9x3.9mm, Pitch 1.27mm, IPC Low Density)
pins: 1 NC, 2 DLY, 3 GND (power), 4 IN (power), 5 OUT (power), 6 SNS, 7 ~{ERR} (oc), 8 ~{SD} (in)

## LP2988AIM-3.0
designator U?
Micropower, 200 mA Ultra Low-Dropout Low Noise Voltage Regulator with Programmable Power-On Reset Delay, 8-pin Narrow SOIC; PartNumber: LP2988AIM-3.0; Manufacturer: National Semiconductor; PackageTopMarking: NSZXTT*2988A*IM3.0; CompType: LDO IC; Published: 4-Dec-2008; DatasheetVersion: Mar-2005; PackageVersion: revM, May-2009; PackageReference: M08A; Publisher: Altium Limited; PackageDescription: SOIC Narrow, 4.9 x 3.9 x 1.45mm, 8 Lead, 1.27mm Pitch; RoHS: Y; PinCount: 8; Code_JEDEC: MS-012-AA; Code_IPC: SOIC127P600-8; ComponentLink1Description: LP2988 Datasheet; ComponentLink1URL: http://www.national.com/ds/LP/LP2988.pdf; ComponentLink2Description: LP2988 Web Page; ComponentLink2URL: http://www.national.com/pf/LP/LP2988.html; ComponentLink3Description: M08A Package Page; ComponentLink3URL: http://www.national.com/packaging/folders/m08a.html
footprint M08A_N (SOIC, 8-Leads, Body 4.9x3.9mm, Pitch 1.27mm, IPC Medium Density)
footprint M08A_L (SOIC, 8-Leads, Body 4.9x3.9mm, Pitch 1.27mm, IPC High Density)
footprint M08A_M (SOIC, 8-Leads, Body 4.9x3.9mm, Pitch 1.27mm, IPC Low Density)
pins: 1 NC, 2 DLY, 3 GND (power), 4 IN (power), 5 OUT (power), 6 SNS, 7 ~{ERR} (oc), 8 ~{SD} (in)

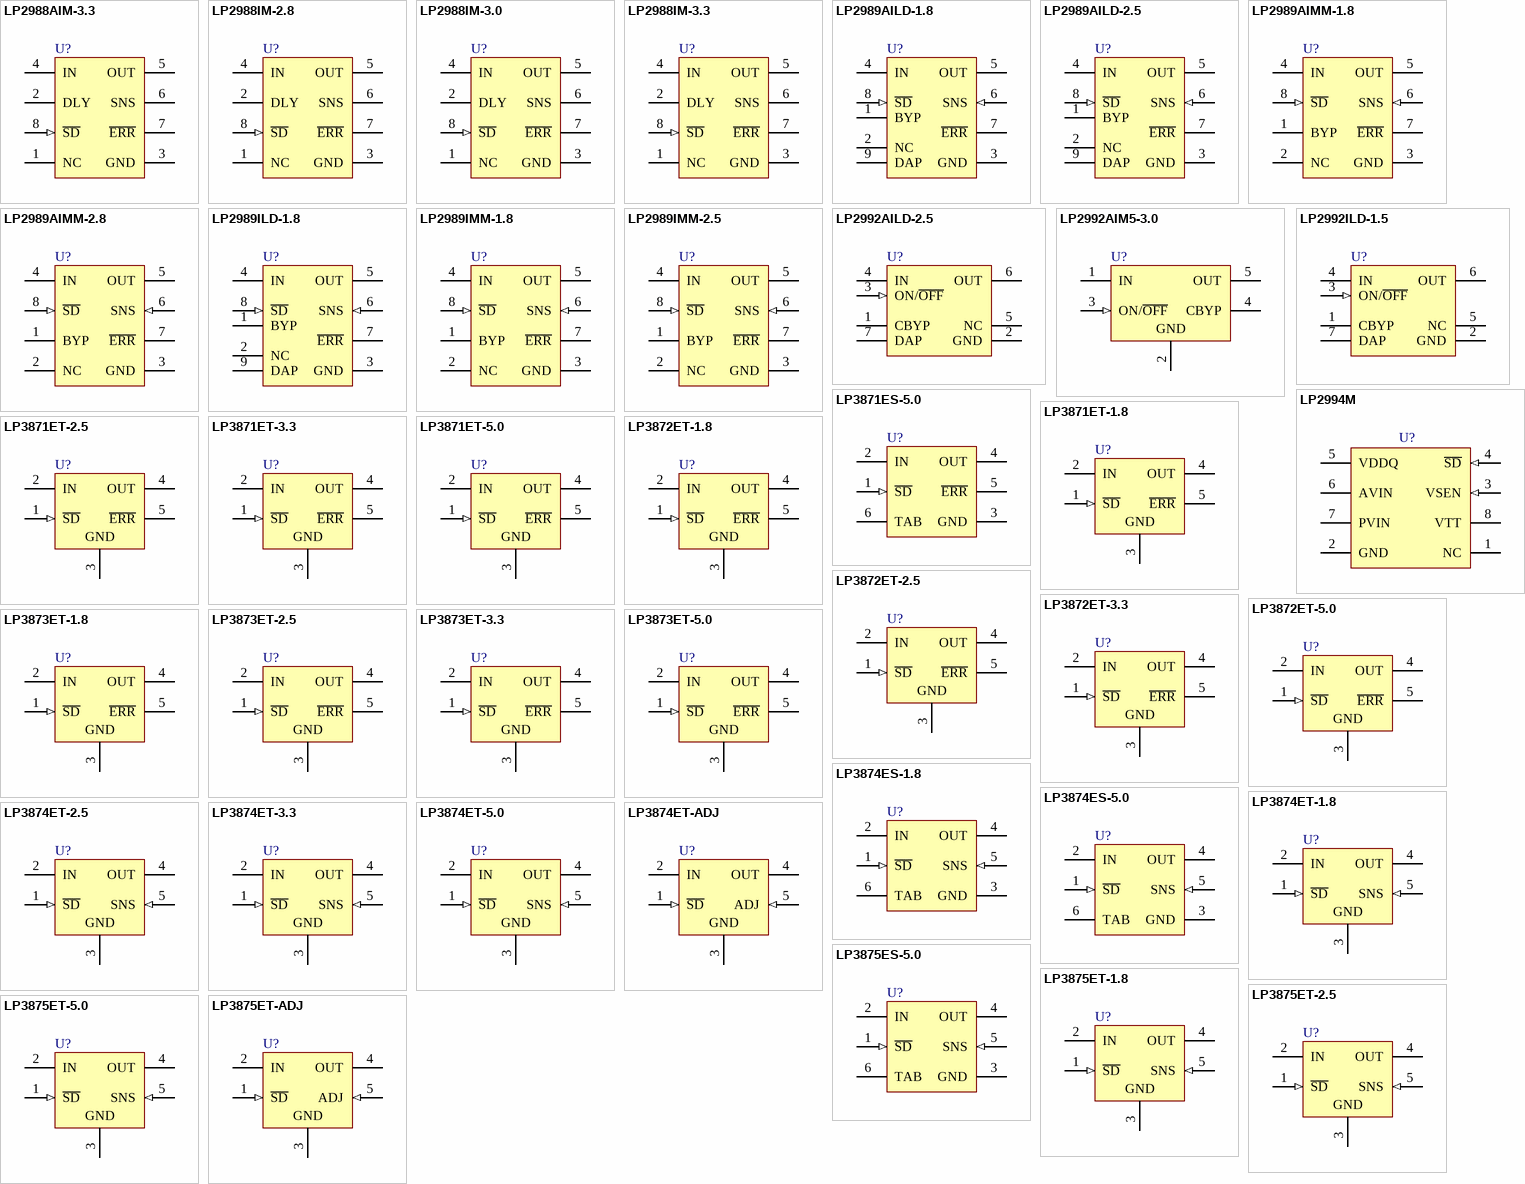
[diagram p21: symbols LP2988AIM-3.3 to LP3875ET-ADJ]

## LP2988AIM-3.3
designator U?
Micropower, 200 mA Ultra Low-Dropout Low Noise Voltage Regulator with Programmable Power-On Reset Delay, 8-pin Narrow SOIC; PartNumber: LP2988AIM-3.3; Manufacturer: National Semiconductor; PackageTopMarking: NSZXTT*2988A*IM3.3; CompType: LDO IC; Published: 4-Dec-2008; DatasheetVersion: Mar-2005; PackageVersion: revM, May-2009; PackageReference: M08A; Publisher: Altium Limited; PackageDescription: SOIC Narrow, 4.9 x 3.9 x 1.45mm, 8 Lead, 1.27mm Pitch; RoHS: O; PinCount: 8; Code_JEDEC: MS-012-AA; Code_IPC: SOIC127P600-8; ComponentLink1Description: LP2988 Datasheet; ComponentLink1URL: http://www.national.com/ds/LP/LP2988.pdf; ComponentLink2Description: LP2988 Web Page; ComponentLink2URL: http://www.national.com/pf/LP/LP2988.html; ComponentLink3Description: M08A Package Page; ComponentLink3URL: http://www.national.com/packaging/folders/m08a.html
footprint M08A_N (SOIC, 8-Leads, Body 4.9x3.9mm, Pitch 1.27mm, IPC Medium Density)
footprint M08A_L (SOIC, 8-Leads, Body 4.9x3.9mm, Pitch 1.27mm, IPC High Density)
footprint M08A_M (SOIC, 8-Leads, Body 4.9x3.9mm, Pitch 1.27mm, IPC Low Density)
pins: 1 NC, 2 DLY, 3 GND (power), 4 IN (power), 5 OUT (power), 6 SNS, 7 ~{ERR} (oc), 8 ~{SD} (in)

## LP2988IM-2.8
designator U?
Micropower, 200 mA Ultra Low-Dropout Low Noise Voltage Regulator with Programmable Power-On Reset Delay, 8-pin Narrow SOIC; PartNumber: LP2988IM-2.8; Manufacturer: National Semiconductor; PackageTopMarking: NSZXTT*2988I*M-2.8; CompType: LDO IC; Published: 4-Dec-2008; DatasheetVersion: Mar-2005; PackageVersion: revM, May-2009; PackageReference: M08A; Publisher: Altium Limited; PackageDescription: SOIC Narrow, 4.9 x 3.9 x 1.45mm, 8 Lead, 1.27mm Pitch; RoHS: Y; PinCount: 8; Code_JEDEC: MS-012-AA; Code_IPC: SOIC127P600-8; ComponentLink1Description: LP2988 Datasheet; ComponentLink1URL: http://www.national.com/ds/LP/LP2988.pdf; ComponentLink2Description: LP2988 Web Page; ComponentLink2URL: http://www.national.com/pf/LP/LP2988.html; ComponentLink3Description: M08A Package Page; ComponentLink3URL: http://www.national.com/packaging/folders/m08a.html
footprint M08A_N (SOIC, 8-Leads, Body 4.9x3.9mm, Pitch 1.27mm, IPC Medium Density)
footprint M08A_L (SOIC, 8-Leads, Body 4.9x3.9mm, Pitch 1.27mm, IPC High Density)
footprint M08A_M (SOIC, 8-Leads, Body 4.9x3.9mm, Pitch 1.27mm, IPC Low Density)
pins: 1 NC, 2 DLY, 3 GND (power), 4 IN (power), 5 OUT (power), 6 SNS, 7 ~{ERR} (oc), 8 ~{SD} (in)

## LP2988IM-3.0
designator U?
Micropower, 200 mA Ultra Low-Dropout Low Noise Voltage Regulator with Programmable Power-On Reset Delay, 8-pin Narrow SOIC; PartNumber: LP2988IM-3.0; Manufacturer: National Semiconductor; PackageTopMarking: NSZXTT*2988I*M3.0; CompType: LDO IC; Published: 4-Dec-2008; DatasheetVersion: Mar-2005; PackageVersion: revM, May-2009; PackageReference: M08A; Publisher: Altium Limited; PackageDescription: SOIC Narrow, 4.9 x 3.9 x 1.45mm, 8 Lead, 1.27mm Pitch; RoHS: Y; PinCount: 8; Code_JEDEC: MS-012-AA; Code_IPC: SOIC127P600-8; ComponentLink1Description: LP2988 Datasheet; ComponentLink1URL: http://www.national.com/ds/LP/LP2988.pdf; ComponentLink2Description: LP2988 Web Page; ComponentLink2URL: http://www.national.com/pf/LP/LP2988.html; ComponentLink3Description: M08A Package Page; ComponentLink3URL: http://www.national.com/packaging/folders/m08a.html
footprint M08A_N (SOIC, 8-Leads, Body 4.9x3.9mm, Pitch 1.27mm, IPC Medium Density)
footprint M08A_L (SOIC, 8-Leads, Body 4.9x3.9mm, Pitch 1.27mm, IPC High Density)
footprint M08A_M (SOIC, 8-Leads, Body 4.9x3.9mm, Pitch 1.27mm, IPC Low Density)
pins: 1 NC, 2 DLY, 3 GND (power), 4 IN (power), 5 OUT (power), 6 SNS, 7 ~{ERR} (oc), 8 ~{SD} (in)

## LP2988IM-3.3
designator U?
Micropower, 200 mA Ultra Low-Dropout Low Noise Voltage Regulator with Programmable Power-On Reset Delay, 8-pin Narrow SOIC; PartNumber: LP2988IM-3.3; Manufacturer: National Semiconductor; PackageTopMarking: NSZXTT*2988I*M3.3; CompType: LDO IC; Published: 4-Dec-2008; DatasheetVersion: Mar-2005; PackageVersion: revM, May-2009; PackageReference: M08A; Publisher: Altium Limited; PackageDescription: SOIC Narrow, 4.9 x 3.9 x 1.45mm, 8 Lead, 1.27mm Pitch; RoHS: Y; PinCount: 8; Code_JEDEC: MS-012-AA; Code_IPC: SOIC127P600-8; ComponentLink1Description: LP2988 Datasheet; ComponentLink1URL: http://www.national.com/ds/LP/LP2988.pdf; ComponentLink2Description: LP2988 Web Page; ComponentLink2URL: http://www.national.com/pf/LP/LP2988.html; ComponentLink3Description: M08A Package Page; ComponentLink3URL: http://www.national.com/packaging/folders/m08a.html
footprint M08A_N (SOIC, 8-Leads, Body 4.9x3.9mm, Pitch 1.27mm, IPC Medium Density)
footprint M08A_L (SOIC, 8-Leads, Body 4.9x3.9mm, Pitch 1.27mm, IPC High Density)
footprint M08A_M (SOIC, 8-Leads, Body 4.9x3.9mm, Pitch 1.27mm, IPC Low Density)
pins: 1 NC, 2 DLY, 3 GND (power), 4 IN (power), 5 OUT (power), 6 SNS, 7 ~{ERR} (oc), 8 ~{SD} (in)

## LP2989AILD-1.8
designator U?
Micropower/Low Noise, 500 mA Ultra Low-Dropout Regulator, 8-pin LLP; PartNumber: LP2989AILD-1.8; Manufacturer: National Semiconductor; PackageTopMarking: NS*UZXYTT*L01EA; CompType: LDO IC; Published: 4-Dec-2008; DatasheetVersion: Feb-2005; PackageVersion: revB, Jun-2003; PackageReference: LDC08A; Publisher: Altium Limited; PackageDescription: LLP, Plastic, Dual, 4 x 4 x 0.75mm Body, 8 Lead, 0.8mm Pitch; Supplier 1: Digi-Key; Supplier Part Number 1: LP2989AILD-1.8TR-ND; Supplier 2: Digi-Key; Supplier Part Number 2: LP2989AILD-1.8CT-ND; Supplier 3: Digi-Key; Supplier Part Number 3: LP2989AILD-1.8DKR-ND; RoHS: O; PinCount: 8; ComponentLink1Description: LP2989LV Datasheet; ComponentLink1URL: http://www.national.com/ds/LP/LP2989LV.pdf; ComponentLink2Description: LP2989LV Web Page; ComponentLink2URL: http://www.national.com/pf/LP/LP2989LV.html; ComponentLink3Description: LDC08A Package Page; ComponentLink3URL: http://www.national.com/packaging/folders/ldc08a.html
footprint LDC08A (PSON, 8-Leads, Body 4x4mm, Pitch 0.8mm, NSC Recommended)
pins: 1 BYP, 2 NC, 3 GND (power), 4 IN (power), 5 OUT (power), 6 SNS (in), 7 ~{ERR} (oc), 8 ~{SD} (in), 9 DAP (power)

## LP2989AILD-2.5
designator U?
Micropower/Low Noise, 500 mA Ultra Low-Dropout Regulator, 8-pin LLP; PartNumber: LP2989AILD-2.5; Manufacturer: National Semiconductor; PackageTopMarking: NS*UZXYTT*L01FA; CompType: LDO IC; Published: 4-Dec-2008; DatasheetVersion: Feb-2005; PackageVersion: revB, Jun-2003; PackageReference: LDC08A; Publisher: Altium Limited; PackageDescription: LLP, Plastic, Dual, 4 x 4 x 0.75mm Body, 8 Lead, 0.8mm Pitch; Supplier 1: Digi-Key; Supplier Part Number 1: LP2989AILD-2.5TR-ND; Supplier 2: Digi-Key; Supplier Part Number 2: LP2989AILD-2.5CT-ND; Supplier 3: Digi-Key; Supplier Part Number 3: LP2989AILD-2.5DKR-ND; RoHS: O; PinCount: 8; ComponentLink1Description: LP2989 Datasheet; ComponentLink1URL: http://www.national.com/ds/LP/LP2989.pdf; ComponentLink2Description: LP2989 Web Page; ComponentLink2URL: http://www.national.com/pf/LP/LP2989.html; ComponentLink3Description: LDC08A Package Page; ComponentLink3URL: http://www.national.com/packaging/folders/ldc08a.html
footprint LDC08A (PSON, 8-Leads, Body 4x4mm, Pitch 0.8mm, NSC Recommended)
pins: 1 BYP, 2 NC, 3 GND (power), 4 IN (power), 5 OUT (power), 6 SNS (in), 7 ~{ERR} (oc), 8 ~{SD} (in), 9 DAP (power)

## LP2989AIMM-1.8
designator U?
Micropower/Low Noise, 500 mA Ultra Low-Dropout Regulator, 8-pin Mini SOIC; PartNumber: LP2989AIMM-1.8; Manufacturer: National Semiconductor; PackageTopMarking: ZXTT*LA5A; CompType: LDO IC; Published: 4-Dec-2008; DatasheetVersion: Feb-2005; PackageVersion: revF, Apr-2008; PackageReference: MUA08A; Publisher: Altium Limited; PackageDescription: MINI SOIC, .118 x .118 x .034in, 8 Lead, .0256in Pitch; RoHS: Y; PinCount: 8; Code_JEDEC: MO-187-AA; ComponentLink1Description: LP2989LV Datasheet; ComponentLink1URL: http://www.national.com/ds/LP/LP2989LV.pdf; ComponentLink2Description: LP2989LV Web Page; ComponentLink2URL: http://www.national.com/pf/LP/LP2989LV.html; ComponentLink3Description: MUA08A Package Page; ComponentLink3URL: http://www.national.com/packaging/folders/mua08a.html
footprint MUA08A_N (TSOP, 8-Leads, Body 3x3mm, Pitch 0.65mm, IPC Medium Density)
footprint MUA08A_L (TSOP, 8-Leads, Body 3x3mm, Pitch 0.65mm, IPC High Density)
footprint MUA08A_M (TSOP, 8-Leads, Body 3x3mm, Pitch 0.65mm, IPC Low Density)
pins: 1 BYP, 2 NC, 3 GND (power), 4 IN (power), 5 OUT (power), 6 SNS (in), 7 ~{ERR} (oc), 8 ~{SD} (in)

## LP2989AIMM-2.8
designator U?
Micropower/Low Noise, 500 mA Ultra Low-Dropout Regulator, 8-pin Mini SOIC; PartNumber: LP2989AIMM-2.8; Manufacturer: National Semiconductor; PackageTopMarking: ZXTT*LA6A; CompType: LDO IC; Published: 4-Dec-2008; DatasheetVersion: Feb-2005; PackageVersion: revF, Apr-2008; PackageReference: MUA08A; Publisher: Altium Limited; PackageDescription: MINI SOIC, .118 x .118 x .034in, 8 Lead, .0256in Pitch; RoHS: Y; PinCount: 8; Code_JEDEC: MO-187-AA; ComponentLink1Description: LP2989 Datasheet; ComponentLink1URL: http://www.national.com/ds/LP/LP2989.pdf; ComponentLink2Description: LP2989 Web Page; ComponentLink2URL: http://www.national.com/pf/LP/LP2989.html; ComponentLink3Description: MUA08A Package Page; ComponentLink3URL: http://www.national.com/packaging/folders/mua08a.html
footprint MUA08A_N (TSOP, 8-Leads, Body 3x3mm, Pitch 0.65mm, IPC Medium Density)
footprint MUA08A_L (TSOP, 8-Leads, Body 3x3mm, Pitch 0.65mm, IPC High Density)
footprint MUA08A_M (TSOP, 8-Leads, Body 3x3mm, Pitch 0.65mm, IPC Low Density)
pins: 1 BYP, 2 NC, 3 GND (power), 4 IN (power), 5 OUT (power), 6 SNS (in), 7 ~{ERR} (oc), 8 ~{SD} (in)

## LP2989ILD-1.8
designator U?
Micropower/Low Noise, 500 mA Ultra Low-Dropout Regulator, 8-pin LLP; PartNumber: LP2989ILD-1.8; Manufacturer: National Semiconductor; PackageTopMarking: NS*UZXYTT*L01EA*B; CompType: LDO IC; Published: 4-Dec-2008; DatasheetVersion: Feb-2005; PackageVersion: revB, Jun-2003; PackageReference: LDC08A; Publisher: Altium Limited; PackageDescription: LLP, Plastic, Dual, 4 x 4 x 0.75mm Body, 8 Lead, 0.8mm Pitch; RoHS: O; PinCount: 8; ComponentLink1Description: LP2989LV Datasheet; ComponentLink1URL: http://www.national.com/ds/LP/LP2989LV.pdf; ComponentLink2Description: LP2989LV Web Page; ComponentLink2URL: http://www.national.com/pf/LP/LP2989LV.html; ComponentLink3Description: LDC08A Package Page; ComponentLink3URL: http://www.national.com/packaging/folders/ldc08a.html
footprint LDC08A (PSON, 8-Leads, Body 4x4mm, Pitch 0.8mm, NSC Recommended)
pins: 1 BYP, 2 NC, 3 GND (power), 4 IN (power), 5 OUT (power), 6 SNS (in), 7 ~{ERR} (oc), 8 ~{SD} (in), 9 DAP (power)

## LP2989IMM-1.8
designator U?
Micropower/Low Noise, 500 mA Ultra Low-Dropout Regulator, 8-pin Mini SOIC; PartNumber: LP2989IMM-1.8; Manufacturer: National Semiconductor; PackageTopMarking: ZXTT*LA5B; CompType: LDO IC; Published: 4-Dec-2008; DatasheetVersion: Feb-2005; PackageVersion: revF, Apr-2008; PackageReference: MUA08A; Publisher: Altium Limited; PackageDescription: MINI SOIC, .118 x .118 x .034in, 8 Lead, .0256in Pitch; RoHS: Y; PinCount: 8; Code_JEDEC: MO-187-AA; ComponentLink1Description: LP2989LV Datasheet; ComponentLink1URL: http://www.national.com/ds/LP/LP2989LV.pdf; ComponentLink2Description: LP2989LV Web Page; ComponentLink2URL: http://www.national.com/pf/LP/LP2989LV.html; ComponentLink3Description: MUA08A Package Page; ComponentLink3URL: http://www.national.com/packaging/folders/mua08a.html
footprint MUA08A_N (TSOP, 8-Leads, Body 3x3mm, Pitch 0.65mm, IPC Medium Density)
footprint MUA08A_L (TSOP, 8-Leads, Body 3x3mm, Pitch 0.65mm, IPC High Density)
footprint MUA08A_M (TSOP, 8-Leads, Body 3x3mm, Pitch 0.65mm, IPC Low Density)
pins: 1 BYP, 2 NC, 3 GND (power), 4 IN (power), 5 OUT (power), 6 SNS (in), 7 ~{ERR} (oc), 8 ~{SD} (in)

## LP2989IMM-2.5
designator U?
Micropower/Low Noise, 500 mA Ultra Low-Dropout Regulator, 8-pin Mini SOIC; PartNumber: LP2989IMM-2.5; Manufacturer: National Semiconductor; PackageTopMarking: ZXTT*LA0B; CompType: LDO IC; Published: 4-Dec-2008; DatasheetVersion: Feb-2005; PackageVersion: revF, Apr-2008; PackageReference: MUA08A; Publisher: Altium Limited; PackageDescription: MINI SOIC, .118 x .118 x .034in, 8 Lead, .0256in Pitch; RoHS: O; PinCount: 8; Code_JEDEC: MO-187-AA; ComponentLink1Description: LP2989 Datasheet; ComponentLink1URL: http://www.national.com/ds/LP/LP2989.pdf; ComponentLink2Description: LP2989 Web Page; ComponentLink2URL: http://www.national.com/pf/LP/LP2989.html; ComponentLink3Description: MUA08A Package Page; ComponentLink3URL: http://www.national.com/packaging/folders/mua08a.html
footprint MUA08A_N (TSOP, 8-Leads, Body 3x3mm, Pitch 0.65mm, IPC Medium Density)
footprint MUA08A_L (TSOP, 8-Leads, Body 3x3mm, Pitch 0.65mm, IPC High Density)
footprint MUA08A_M (TSOP, 8-Leads, Body 3x3mm, Pitch 0.65mm, IPC Low Density)
pins: 1 BYP, 2 NC, 3 GND (power), 4 IN (power), 5 OUT (power), 6 SNS (in), 7 ~{ERR} (oc), 8 ~{SD} (in)

## LP2992AILD-2.5
designator U?
Micropower 250 mA Low-Noise Ultra Low-Dropout Regulator, 6-pin LLP; PartNumber: LP2992AILD-2.5; Manufacturer: National Semiconductor; PackageTopMarking: ZXYTT*L013A; CompType: LDO IC; Published: 4-Dec-2008; DatasheetVersion: May-2005; PackageVersion: revA, Jul-2001; PackageReference: LDE06A; Publisher: Altium Limited; PackageDescription: LLP, Plastic, Dual, 2.92 x 3.29 x 0.75mm Body, 6 Lead, 0.95mm Pitch, SOT23 Land; RoHS: Y; PinCount: 6; ComponentLink1Description: LP2992 Datasheet; ComponentLink1URL: http://www.national.com/ds/LP/LP2992.pdf; ComponentLink2Description: LP2992 Web Page; ComponentLink2URL: http://www.national.com/pf/LP/LP2992.html; ComponentLink3Description: LDE06A Package Page; ComponentLink3URL: http://www.national.com/packaging/folders/lde06a.html
footprint LDE06A (PSON, 6-Leads, Body 2.92x3.29 mm, Pitch 0.95mm, NSC Recommended)
pins: 1 CBYP, 2 GND (power), 3 ON/~{OFF} (in), 4 IN (power), 5 NC, 6 OUT (power), 7 DAP (power)

## LP2992AIM5-3.0
designator U?
Micropower 250 mA Low-Noise Ultra Low-Dropout Regulator, 5-pin SOT-23; PartNumber: LP2992AIM5-3.0; Manufacturer: National Semiconductor; PackageTopMarking: LF8A*XTT; CompType: LDO IC; Published: 4-Dec-2008; DatasheetVersion: May-2005; PackageVersion: revD, Aug-2008; PackageReference: MF05A; Publisher: Altium Limited; PackageDescription: Molded SOT-23, .115 x .063 x .040 in Body, 5 Lead, .0375 in Pitch; RoHS: Y; PinCount: 5; ComponentLink1Description: LP2992 Datasheet; ComponentLink1URL: http://www.national.com/ds/LP/LP2992.pdf; ComponentLink2Description: LP2992 Web Page; ComponentLink2URL: http://www.national.com/pf/LP/LP2992.html; ComponentLink3Description: MF05A Package Page; ComponentLink3URL: http://www.national.com/packaging/folders/mf05a.html
footprint MF05A_N (SOT23, 5-Leads, Body 2.9x1.6mm, Pitch 0.95mm, Lead Span 2.8mm, IPC Medium Density)
footprint MF05A_L (SOT23, 5-Leads, Body 2.9x1.6mm, Pitch 0.95mm, Lead Span 2.8mm, IPC High Density)
footprint MF05A_M (SOT23, 5-Leads, Body 2.9x1.6mm, Pitch 0.95mm, Lead Span 2.8mm, IPC Low Density)
pins: 1 IN (power), 2 GND (power), 3 ON/~{OFF} (in), 4 CBYP, 5 OUT (power)

## LP2992ILD-1.5
designator U?
Micropower 250 mA Low-Noise Ultra Low-Dropout Regulator, 6-pin LLP; PartNumber: LP2992ILD-1.5; Manufacturer: National Semiconductor; PackageTopMarking: ZXYTT*L011A*B; CompType: LDO IC; Published: 4-Dec-2008; DatasheetVersion: May-2005; PackageVersion: revA, Jul-2001; PackageReference: LDE06A; Publisher: Altium Limited; PackageDescription: LLP, Plastic, Dual, 2.92 x 3.29 x 0.75mm Body, 6 Lead, 0.95mm Pitch, SOT23 Land; RoHS: Y; PinCount: 6; ComponentLink1Description: LP2992 Datasheet; ComponentLink1URL: http://www.national.com/ds/LP/LP2992.pdf; ComponentLink2Description: LP2992 Web Page; ComponentLink2URL: http://www.national.com/pf/LP/LP2992.html; ComponentLink3Description: LDE06A Package Page; ComponentLink3URL: http://www.national.com/packaging/folders/lde06a.html
footprint LDE06A (PSON, 6-Leads, Body 2.92x3.29 mm, Pitch 0.95mm, NSC Recommended)
pins: 1 CBYP, 2 GND (power), 3 ON/~{OFF} (in), 4 IN (power), 5 NC, 6 OUT (power), 7 DAP (power)

## LP2994M
designator U?
DDR Termination Regulator, 8-pin Narrow SOIC; PartNumber: LP2994M; Manufacturer: National Semiconductor; PackageTopMarking: NSZXTT*2994M; CompType: MiscPower; Published: 4-Dec-2008; DatasheetVersion: Jun-2005; PackageVersion: revM, May-2009; PackageReference: M08A; Publisher: Altium Limited; PackageDescription: SOIC Narrow, 4.9 x 3.9 x 1.45mm, 8 Lead, 1.27mm Pitch; RoHS: Y; PinCount: 8; Code_JEDEC: MS-012-AA; Code_IPC: SOIC127P600-8; ComponentLink1Description: LP2994 Datasheet; ComponentLink1URL: http://www.national.com/ds/LP/LP2994.pdf; ComponentLink2Description: LP2994 Web Page; ComponentLink2URL: http://www.national.com/pf/LP/LP2994.html; ComponentLink3Description: M08A Package Page; ComponentLink3URL: http://www.national.com/packaging/folders/m08a.html
footprint M08A_N (SOIC, 8-Leads, Body 4.9x3.9mm, Pitch 1.27mm, IPC Medium Density)
footprint M08A_L (SOIC, 8-Leads, Body 4.9x3.9mm, Pitch 1.27mm, IPC High Density)
footprint M08A_M (SOIC, 8-Leads, Body 4.9x3.9mm, Pitch 1.27mm, IPC Low Density)
pins: 1 NC, 2 GND (power), 3 VSEN (in), 4 ~{SD} (in), 5 VDDQ (power), 6 AVIN (power), 7 PVIN (power), 8 VTT (power)

## LP3871ES-5.0
designator U?
0.8A Fast Ultra Low Dropout Linear Regulators, 5-pin TO-263; PartNumber: LP3871ES-5.0; Manufacturer: National Semiconductor; PackageTopMarking: NSUZXYTTE#*LP3871ES*-5.0; CompType: LDO IC; Published: 4-Dec-2008; DatasheetVersion: Sep-2006; PackageVersion: revD, Apr-2005; PackageReference: TS5B; Publisher: Altium Limited; PackageDescription: TO-263, Molded, .400 x .390 x .180in, 5 Lead, .067in Pitch, Surface Mount; Supplier 1: Farnell; Supplier Part Number 1: 8188289; RoHS: Y; PinCount: 5; Code_JEDEC: MO-169-AB; ComponentLink1Description: LP3871 Datasheet; ComponentLink1URL: http://www.national.com/ds/LP/LP3871.pdf; ComponentLink2Description: LP3871 Web Page; ComponentLink2URL: http://www.national.com/pf/LP/LP3871.html; ComponentLink3Description: TS5B Package Page; ComponentLink3URL: http://www.national.com/packaging/folders/ts5b.html
footprint TS5B_N (D2-PAK, 6-Leads, Body 8.6x10.2mm, Pitch 1.7mm, Lead Span 14.1mm, IPC Medium Density)
footprint TS5B_L (D2-PAK, 6-Leads, Body 8.6x10.2mm, Pitch 1.7mm, Lead Span 14.1mm, IPC High Density)
footprint TS5B_M (D2-PAK, 6-Leads, Body 8.6x10.2mm, Pitch 1.7mm, Lead Span 14.1mm, IPC Low Density)
pins: 1 ~{SD} (in), 2 IN (power), 3 GND (power), 4 OUT (power), 5 ~{ERR} (oc), 6 TAB (power)

## LP3871ET-1.8
designator U?
0.8A Fast Ultra Low Dropout Linear Regulators, 5-pin TO-220; PartNumber: LP3871ET-1.8; Manufacturer: National Semiconductor; PackageTopMarking: NSUZXYTTE#*LP3871ET*-1.8; CompType: LDO IC; Published: 4-Dec-2008; DatasheetVersion: Sep-2006; PackageVersion: revA, Oct-1989; PackageReference: T05D; Publisher: Altium Limited; PackageDescription: TO-220, Molded, Stagger Bend, 5 Lead; Supplier 1: Farnell; Supplier Part Number 1: 8188297; RoHS: Y; PinCount: 5; ComponentLink1Description: LP3871 Datasheet; ComponentLink1URL: http://www.national.com/ds/LP/LP3871.pdf; ComponentLink2Description: LP3871 Web Page; ComponentLink2URL: http://www.national.com/pf/LP/LP3871.html; ComponentLink3Description: T05D Package Page; ComponentLink3URL: http://www.national.com/packaging/folders/t05d.html
footprint T05D (TO, Thru-Hole, Vertical, Heatsink Mounted; 5 Bent Staggered Leads; Body 10.3x8.6x4.6mm, Pitch 1.7 mm)
pins: 1 ~{SD} (in), 2 IN (power), 3 GND (power), 4 OUT (power), 5 ~{ERR} (oc)

## LP3871ET-2.5
designator U?
0.8A Fast Ultra Low Dropout Linear Regulators, 5-pin TO-220; PartNumber: LP3871ET-2.5; Manufacturer: National Semiconductor; PackageTopMarking: NSUZXYTTE#*LP3871ET*-2.5; CompType: LDO IC; Published: 4-Dec-2008; DatasheetVersion: Sep-2006; PackageVersion: revA, Oct-1989; PackageReference: T05D; Publisher: Altium Limited; PackageDescription: TO-220, Molded, Stagger Bend, 5 Lead; Supplier 1: Farnell; Supplier Part Number 1: 8188300; RoHS: Y; PinCount: 5; ComponentLink1Description: LP3871 Datasheet; ComponentLink1URL: http://www.national.com/ds/LP/LP3871.pdf; ComponentLink2Description: LP3871 Web Page; ComponentLink2URL: http://www.national.com/pf/LP/LP3871.html; ComponentLink3Description: T05D Package Page; ComponentLink3URL: http://www.national.com/packaging/folders/t05d.html
footprint T05D (TO, Thru-Hole, Vertical, Heatsink Mounted; 5 Bent Staggered Leads; Body 10.3x8.6x4.6mm, Pitch 1.7 mm)
pins: 1 ~{SD} (in), 2 IN (power), 3 GND (power), 4 OUT (power), 5 ~{ERR} (oc)

## LP3871ET-3.3
designator U?
0.8A Fast Ultra Low Dropout Linear Regulators, 5-pin TO-220; PartNumber: LP3871ET-3.3; Manufacturer: National Semiconductor; PackageTopMarking: NSUZXYTTE#*LP3871ET*-3.3; CompType: LDO IC; Published: 4-Dec-2008; DatasheetVersion: Sep-2006; PackageVersion: revA, Oct-1989; PackageReference: T05D; Publisher: Altium Limited; PackageDescription: TO-220, Molded, Stagger Bend, 5 Lead; Supplier 1: Farnell; Supplier Part Number 1: 8188319; RoHS: Y; PinCount: 5; ComponentLink1Description: LP3871 Datasheet; ComponentLink1URL: http://www.national.com/ds/LP/LP3871.pdf; ComponentLink2Description: LP3871 Web Page; ComponentLink2URL: http://www.national.com/pf/LP/LP3871.html; ComponentLink3Description: T05D Package Page; ComponentLink3URL: http://www.national.com/packaging/folders/t05d.html
footprint T05D (TO, Thru-Hole, Vertical, Heatsink Mounted; 5 Bent Staggered Leads; Body 10.3x8.6x4.6mm, Pitch 1.7 mm)
pins: 1 ~{SD} (in), 2 IN (power), 3 GND (power), 4 OUT (power), 5 ~{ERR} (oc)

## LP3871ET-5.0
designator U?
0.8A Fast Ultra Low Dropout Linear Regulators, 5-pin TO-220; PartNumber: LP3871ET-5.0; Manufacturer: National Semiconductor; PackageTopMarking: NSUZXYTTE#*LP3871ET*-5.0; CompType: LDO IC; Published: 4-Dec-2008; DatasheetVersion: Sep-2006; PackageVersion: revA, Oct-1989; PackageReference: T05D; Publisher: Altium Limited; PackageDescription: TO-220, Molded, Stagger Bend, 5 Lead; Supplier 1: Farnell; Supplier Part Number 1: 8188327; RoHS: Y; PinCount: 5; ComponentLink1Description: LP3871 Datasheet; ComponentLink1URL: http://www.national.com/ds/LP/LP3871.pdf; ComponentLink2Description: LP3871 Web Page; ComponentLink2URL: http://www.national.com/pf/LP/LP3871.html; ComponentLink3Description: T05D Package Page; ComponentLink3URL: http://www.national.com/packaging/folders/t05d.html
footprint T05D (TO, Thru-Hole, Vertical, Heatsink Mounted; 5 Bent Staggered Leads; Body 10.3x8.6x4.6mm, Pitch 1.7 mm)
pins: 1 ~{SD} (in), 2 IN (power), 3 GND (power), 4 OUT (power), 5 ~{ERR} (oc)